# EAGLE library part STSPIN230 (library STSPIN230)
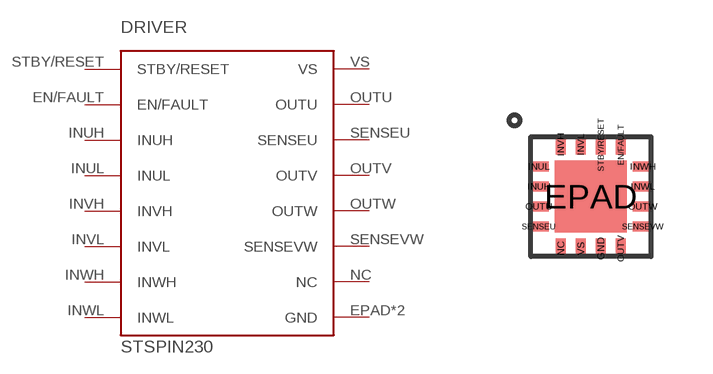
[diagram p0: symbol with the pads of STSPIN230; footprint STSPIN230]

Designator prefix DRIVER

## STSPIN230  [STSPIN230]
EN/FAULT  EN/FAULT
EPAD  GND
GND  GND
INUH  INUH
INUL  INUL
INVH  INVH
INVL  INVL
INWH  INWH
INWL  INWL
NC  NC
OUTU  OUTU
OUTV  OUTV
OUTW  OUTW
SENSEU  SENSEU
SENSEVW  SENSEVW
STBY/RESET  STBY/RESET
VS  VS

## Footprint STSPIN230 (pad centres in mm)
smd 0.25 x 0.5: EN/FAULT 0.75,1.3; GND 0.25,-1.3; INVH -0.75,1.3; INVL -0.25,1.3; NC -0.75,-1.3; OUTV 0.75,-1.3; STBY/RESET 0.25,1.3; VS -0.25,-1.3
smd 1.8 x 1.8: EPAD 0,0
smd 0.5 x 0.25: INUH -1.3,0.25; INUL -1.3,0.75; INWH 1.3,0.75; INWL 1.3,0.25; OUTU -1.3,-0.25; OUTW 1.3,-0.25; SENSEU -1.3,-0.75; SENSEVW 1.3,-0.75